# Altium schematic symbol library Fuse_Clip.SchLib: 23 symbols
Pins are listed as number, name and electrical type; pins without a type are passive.

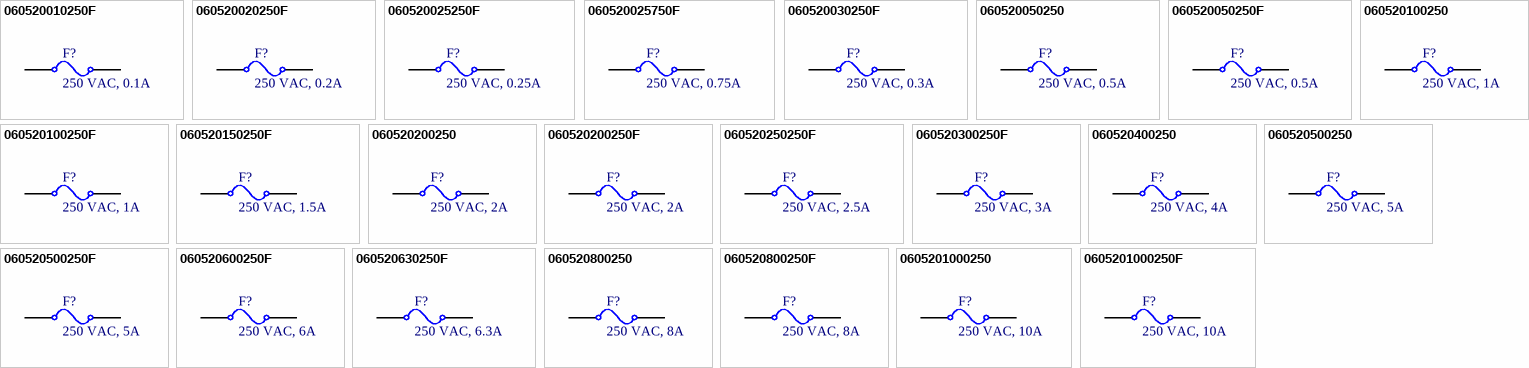
[diagram p0: symbols 060520010250F to 0605201000250F]

## 060520010250F
designator F?, comment 250 VAC, 0.1A
Glass Fuse, Size 0520, 250 VAC, 0.1A, F; Manufacturer: Bel Fuse; Threshold Voltage: 250VAC; Threshold Current: 35A ( 250VAC); Supply 1 Name: Mouser; Supply 1 SN: 530-5ST100-R; Supply 2 Name: Digikey; Supply 2 SN: 507-1238-ND; Supply 3 Name: Thegioiic; Hold Current: 0.1A; Size: 0520; Mounting Technology: Holder / Clip; Fuse speed: F; ComponentLink1Description: Datasheet link; ComponentLink1URL: https://www.belfuse.com/resources/datasheets/circuitprotection/ds-cp-5st-5stp-series.pdf; ComponentLink2Description: Supply 1 URL; ComponentLink2URL: https://www.mouser.vn/ProductDetail/Bel-Fuse/5ST-100-R?qs=MvPYbBWWJysvyCTUIgtvFw%3D%3D; ComponentLink3Description: Supply 2 URL; ComponentLink3URL: https://www.digikey.com/en/products/detail/bel-fuse-inc/5ST-100-R/1009010; ComponentLink4Description: Supply 3 URL; ComponentLink4URL: https://www.thegioiic.com/cau-chi-ong-thuy-tinh-0-1a-5x20mm-toc-do-f; Supply 3 SN: N/A
pins: 0, 1

## 060520020250F
designator F?, comment 250 VAC, 0.2A
Glass Fuse, Size 0520, 250 VAC, 0.2A, F; Manufacturer: Littelfuse; Threshold Voltage: 250VAC; Threshold Current: 35A ( 250VAC); Supply 1 Name: Mouser; Supply 1 SN: 576-0217.200MXP; Supply 2 Name: Digikey; Supply 2 SN: 507-1263-ND; Supply 3 Name: Thegioiic; Hold Current: 0.2A; Size: 0520; Mounting Technology: Holder / Clip; Fuse speed: F; ComponentLink1Description: Datasheet link; ComponentLink1URL: https://www.littelfuse.com/~/media/electronics/datasheets/fuses/littelfuse_fuse_217_datasheet.pdf.pdf; ComponentLink2Description: Supply 1 URL; ComponentLink2URL: https://www.mouser.vn/ProductDetail/Littelfuse/0217.200MXP?qs=LpXnx4WbYtByvcMiHPFRdQ%3D%3D; ComponentLink3Description: Supply 2 URL; ComponentLink3URL: https://www.digikey.com/en/products/detail/bel-fuse-inc/5MF-1-5-R/1009035; ComponentLink4Description: Supply 3 URL; ComponentLink4URL: https://www.thegioiic.com/cau-chi-ong-thuy-tinh-0-2a-5x20mm-toc-do-f; Supply 3 SN: N/A
pins: 0, 1

## 060520025250F
designator F?, comment 250 VAC, 0.25A
Glass Fuse, Size 0520, 250 VAC, 0.25A, F; Manufacturer: Littelfuse; Threshold Voltage: 250VAC; Threshold Current: 35A ( 250VAC); Supply 1 Name: Mouser; Supply 1 SN: 576-0217.250MXP; Supply 2 Name: Digikey; Supply 2 SN: F1718-ND; Supply 3 Name: Thegioiic; Hold Current: 0.25A; Size: 0520; Mounting Technology: Holder / Clip; Fuse speed: F; ComponentLink1Description: Datasheet link; ComponentLink1URL: https://www.littelfuse.com/~/media/electronics/datasheets/fuses/littelfuse_fuse_217_datasheet.pdf.pdf; ComponentLink2Description: Supply 1 URL; ComponentLink2URL: https://www.mouser.vn/ProductDetail/Littelfuse/0217.250MXP?qs=KOeOmFnJLTo%252BGMWHwtjXYA%3D%3D; ComponentLink3Description: Supply 2 URL; ComponentLink3URL: https://www.digikey.com/en/products/detail/littelfuse-inc/0217-250MXP/777531?s=N4IgTCBcDaIAxgIwHYB0YCscCyANACiALoC%2BQA; ComponentLink4Description: Supply 3 URL; ComponentLink4URL: https://www.thegioiic.com/cau-chi-ong-thuy-tinh-0-25a-5x20mm-toc-do-f; Supply 3 SN: N/A
pins: 0, 1

## 060520025750F
designator F?, comment 250 VAC, 0.75A
Glass Fuse, Size 0520, 250 VAC, 0.75A, F; Manufacturer: Bussmann / Eaton; Threshold Voltage: 250VAC; Threshold Current: 35A; Supply 1 Name: Mouser; Supply 1 SN: 504-BK/GMA-750-R; Supply 2 Name: Digikey; Supply 2 SN: 283-2869-ND; Supply 3 Name: Thegioiic; Hold Current: 0.75A; Size: 0520; Mounting Technology: Holder / Clip; Fuse speed: F; ComponentLink1Description: Datasheet link; ComponentLink1URL: https://www.eaton.com/content/dam/eaton/products/electronic-components/resources/data-sheet/eaton-gma-time-delay-glass-tube-fuses-data-sheet.pdf; ComponentLink2Description: Supply 1 URL; ComponentLink2URL: https://www.mouser.vn/ProductDetail/Bussmann-Eaton/BK-GMA-750-R?qs=St27ATL478tI49%252BCTEEZkw%3D%3D; ComponentLink3Description: Supply 2 URL; ComponentLink3URL: https://www.digikey.com/en/products/detail/eaton-electronics-division/BK-GMA-750-R/1023987?s=N4IgTCBcDaIAQCEDSB6A4gWQIIFoDsArAAw4BKIAugL5A; ComponentLink4Description: Supply 3 URL; ComponentLink4URL: https://www.thegioiic.com/cau-chi-ong-thuy-tinh-0-75a-5x20mm-toc-do-f; Supply 3 SN: N/A
pins: 0, 1

## 060520030250F
designator F?, comment 250 VAC, 0.3A
Glass Fuse, Size 0520, 250 VAC, 0.3A, F; Manufacturer: Littelfuse; Threshold Voltage: 250VAC; Threshold Current: 10kA ( 125VAC); Supply 1 Name: Mouser; Supply 1 SN: 576-0235.300MXP; Supply 2 Name: Digikey; Supply 2 SN: F4717-ND; Supply 3 Name: Thegioiic; Hold Current: 0.3A; Size: 0520; Mounting Technology: Holder / Clip; Fuse speed: F; ComponentLink1Description: Datasheet link; ComponentLink1URL: https://www.littelfuse.com/~/media/electronics/datasheets/fuses/littelfuse_fuse_217_datasheet.pdf.pdf; ComponentLink2Description: Supply 1 URL; ComponentLink2URL: https://www.mouser.vn/ProductDetail/Littelfuse/0235.300MXP?qs=qI%252BDxnNls1%2FlgYUhjxKUBg%3D%3D; ComponentLink3Description: Supply 2 URL; ComponentLink3URL: https://www.digikey.com/en/products/detail/littelfuse-inc/0235-300MXP/778120?s=N4IgTCBcDaIAxgMwFYB0i5wLIA0AKIAugL5A; ComponentLink4Description: Supply 3 URL; ComponentLink4URL: https://www.thegioiic.com/cau-chi-ong-thuy-tinh-0-3a-5x20mm-toc-do-f; Supply 3 SN: N/A
pins: 0, 1

## 060520050250
designator F?, comment 250 VAC, 0.5A
Ceramic Fuse, Size 0520, 250 VAC, 0.5A; Manufacturer: Littelfuse; Threshold Voltage: 250VAC; Threshold Current: 1,5kA (250VAC); Supply 1 Name: Mouser; Supply 1 SN: 576-0215.500MXP; Supply 2 Name: Digikey; Supply 2 SN: F3597-ND; Supply 3 Name: Thegioiic; Hold Current: 0.5A; Size: 0520; Mounting Technology: Holder / Clip; ComponentLink1Description: Datasheet link; ComponentLink1URL: https://www.littelfuse.com/~/media/electronics/datasheets/fuses/littelfuse_fuse_217_datasheet.pdf.pdf; ComponentLink2Description: Supply 1 URL; ComponentLink2URL: https://www.mouser.vn/ProductDetail/Littelfuse/0215.500MXP?qs=qI%252BDxnNls1%2Fdlp%2FQaMILDA%3D%3D; ComponentLink3Description: Supply 2 URL; ComponentLink3URL: https://www.digikey.com/en/products/detail/littelfuse-inc/0215-500MXP/777422?s=N4IgTCBcDaIAxgIwFYB0y5wLIA0AKIAugL5A; ComponentLink4Description: Supply 3 URL; ComponentLink4URL: https://www.thegioiic.com/cau-chi-su-0-5a-5x20mm; Supply 3 SN: N/A
pins: 0, 1

## 060520050250F
designator F?, comment 250 VAC, 0.5A
Glass Fuse, Size 0520, 250 VAC, 0.5A, F; Manufacturer: Littelfuse; Threshold Voltage: 250VAC; Threshold Current: 35A (250VAC); Supply 1 Name: Mouser; Supply 1 SN: 576-0217.500HXP; Supply 2 Name: Digikey; Supply 2 SN: F2389-ND; Supply 3 Name: Thegioiic; Hold Current: 0.5A; Size: 0520; Mounting Technology: Holder / Clip; Fuse speed: F; ComponentLink1Description: Datasheet link; ComponentLink1URL: https://www.littelfuse.com/~/media/electronics/datasheets/fuses/littelfuse_fuse_217_datasheet.pdf.pdf; ComponentLink2Description: Supply 1 URL; ComponentLink2URL: https://www.mouser.vn/ProductDetail/Littelfuse/0217.500HXP?qs=LpXnx4WbYtBiNp2qBalYRA%3D%3D; ComponentLink3Description: Supply 2 URL; ComponentLink3URL: https://www.digikey.com/en/products/detail/littelfuse-inc/0217-500HXP/777105?s=N4IgTCBcDaIAxgIwHYB0BWOcASANACiALoC%2BQA; ComponentLink4Description: Supply 3 URL; ComponentLink4URL: https://www.thegioiic.com/cau-chi-ong-thuy-tinh-0-5a-5x20mm-toc-do-f; Supply 3 SN: N/A
pins: 0, 1

## 060520100250
designator F?, comment 250 VAC, 1A
Ceramic Fuse, Size 0520, 250 VAC, 1A; Manufacturer: Littelfuse; Threshold Voltage: 250VAC; Threshold Current: 1.5kA (250VAC); Supply 1 Name: Mouser; Supply 1 SN: 576-0215001.MXP; Supply 2 Name: Digikey; Supply 2 SN: F1696-ND; Supply 3 Name: Thegioiic; Hold Current: 1A; Size: 0520; Mounting Technology: Holder / Clip; ComponentLink1Description: Datasheet link; ComponentLink1URL: https://www.littelfuse.com/~/media/electronics/datasheets/fuses/littelfuse_fuse_234_datasheet.pdf.pdf; ComponentLink2Description: Supply 1 URL; ComponentLink2URL: https://www.mouser.vn/ProductDetail/Littelfuse/0215001.MXP?qs=ar9f0rk5DXA%2FCWd1HPfSGA%3D%3D; ComponentLink3Description: Supply 2 URL; ComponentLink3URL: https://www.digikey.com/en/products/detail/littelfuse-inc/0215001-MXP/777431?s=N4IgTCBcDaIAxgIwFY50QOgLIA0AKIAugL5A; ComponentLink4Description: Supply 3 URL; ComponentLink4URL: https://www.thegioiic.com/cau-chi-su-1a-5x20mm; Supply 3 SN: N/A
pins: 0, 1

## 060520100250F
designator F?, comment 250 VAC, 1A
Glass Fuse, Size 0520, 250 VAC, 1A, F; Manufacturer: Littelfuse; Threshold Voltage: 250VAC; Threshold Current: 35A (250VAC); Supply 1 Name: Mouser; Supply 1 SN: 576-0217001.MXP; Supply 2 Name: Digikey; Supply 2 SN: F5929-ND; Supply 3 Name: Thegioiic; Hold Current: 1A; Size: 0520; Mounting Technology: Holder / Clip; Fuse speed: F; ComponentLink1Description: Datasheet link; ComponentLink1URL: https://www.littelfuse.com/~/media/electronics/datasheets/fuses/littelfuse_fuse_234_datasheet.pdf.pdf; ComponentLink2Description: Supply 1 URL; ComponentLink2URL: https://www.mouser.vn/ProductDetail/Littelfuse/0217001.MXP?qs=8QfiMw8FY5O6uJ5P97zz7g%3D%3D; ComponentLink3Description: Supply 2 URL; ComponentLink3URL: https://www.digikey.com/en/products/detail/littelfuse-inc/0217001-MXP/777543?s=N4IgTCBcDaIAQAYwEYDsCHIHQFkAaACiALoC%2BQA; ComponentLink4Description: Supply 3 URL; ComponentLink4URL: https://www.thegioiic.com/cau-chi-ong-thuy-tinh-1a-5x20mm-toc-do-f; Supply 3 SN: N/A
pins: 0, 1

## 060520150250F
designator F?, comment 250 VAC, 1.5A
Glass Fuse, Size 0520, 250 VAC, 1.5A, F; Manufacturer: Bel Fuse; Threshold Voltage: 250VAC; Threshold Current: 10kA ( 125VAC); Supply 1 Name: Mouser; Supply 1 SN: 576-0235.300MXP; Supply 2 Name: Digikey; Supply 2 SN: F4717-ND; Supply 3 Name: Thegioiic; Hold Current: 1.5A; Size: 0520; Mounting Technology: Holder / Clip; Fuse speed: F; ComponentLink1Description: Datasheet link; ComponentLink1URL: https://www.belfuse.com/resources/datasheets/circuitprotection/ds-cp-5mf-5mfp-series.pdf; ComponentLink2Description: Supply 1 URL; ComponentLink2URL: https://www.mouser.vn/ProductDetail/Bel-Fuse/5MF-1.5-R?qs=MvPYbBWWJytyVTk9PnzKGA%3D%3D; ComponentLink3Description: Supply 2 URL; ComponentLink3URL: https://www.digikey.com/en/products/detail/bel-fuse-inc/5MF-1-5-R/1009035; ComponentLink4Description: Supply 3 URL; ComponentLink4URL: https://www.thegioiic.com/cau-chi-ong-thuy-tinh-1-5a-5x20mm-toc-do-f; Supply 3 SN: N/A
pins: 0, 1

## 060520200250
designator F?, comment 250 VAC, 2A
Ceramic Fuse, Size 0520, 250 VAC, 2A; Manufacturer: Littelfuse; Threshold Voltage: 250VAC; Threshold Current: 1.5kA (250VAC); Supply 1 Name: Mouser; Supply 1 SN: 576-0215002.HXP; Supply 2 Name: Digikey; Supply 2 SN: F2662-ND; Supply 3 Name: Thegioiic; Hold Current: 2A; Size: 0520; Mounting Technology: Holder / Clip; ComponentLink1Description: Datasheet link; ComponentLink1URL: https://www.littelfuse.com/~/media/electronics/datasheets/fuses/littelfuse_fuse_234_datasheet.pdf.pdf; ComponentLink2Description: Supply 1 URL; ComponentLink2URL: https://www.mouser.vn/ProductDetail/Littelfuse/0215002.HXP?qs=KOeOmFnJLTqrn80%2F88U61A%3D%3D; ComponentLink3Description: Supply 2 URL; ComponentLink3URL: https://www.digikey.com/en/products/detail/littelfuse-inc/0215002-HXP/777432?s=N4IgTCBcDaIAxgIwFY4IHQAkAaAFEAugL5A; ComponentLink4Description: Supply 3 URL; ComponentLink4URL: https://www.thegioiic.com/cau-chi-su-2a-5x20mm; Supply 3 SN: N/A
pins: 0, 1

## 060520200250F
designator F?, comment 250 VAC, 2A
Glass Fuse, Size 0520, 250 VAC, 2A, F; Manufacturer: Littelfuse; Threshold Voltage: 250VAC; Threshold Current: 35A (250VAC); Supply 1 Name: Mouser; Supply 1 SN: 576-0217002.MXP; Supply 2 Name: Digikey; Supply 2 SN: F1723-ND; Supply 3 Name: Thegioiic; Hold Current: 2A; Size: 0520; Mounting Technology: Holder / Clip; Fuse speed: F; ComponentLink1Description: Datasheet link; ComponentLink1URL: https://www.littelfuse.com/~/media/electronics/datasheets/fuses/littelfuse_fuse_234_datasheet.pdf.pdf; ComponentLink2Description: Supply 1 URL; ComponentLink2URL: https://www.mouser.vn/ProductDetail/Littelfuse/0217002.MXP?qs=YKoktUZms5IWTPy42qy8YA%3D%3D; ComponentLink3Description: Supply 2 URL; ComponentLink3URL: https://www.digikey.com/en/products/detail/littelfuse-inc/0217002-MXP/777545?s=N4IgTCBcDaIAQAYwEYDsCkDoCyANACiALoC%2BQA; ComponentLink4Description: Supply 3 URL; ComponentLink4URL: https://www.thegioiic.com/cau-chi-ong-thuy-tinh-2a-5x20mm-toc-do-f; Supply 3 SN: N/A
pins: 0, 1

## 060520250250F
designator F?, comment 250 VAC, 2.5A
Glass Fuse, Size 0520, 250 VAC, 2.5A, F; Manufacturer: Littelfuse; Threshold Voltage: 250VAC; Threshold Current: 35A (250VAC); Supply 1 Name: Mouser; Supply 1 SN: 576-021702.5TXP; Supply 2 Name: Digikey; Supply 2 SN: F4260-ND; Supply 3 Name: Thegioiic; Hold Current: 2.5A; Size: 0520; Mounting Technology: Holder / Clip; Fuse speed: F; ComponentLink1Description: Datasheet link; ComponentLink1URL: https://www.littelfuse.com/~/media/electronics/datasheets/fuses/littelfuse_fuse_234_datasheet.pdf.pdf; ComponentLink2Description: Supply 1 URL; ComponentLink2URL: https://www.mouser.vn/ProductDetail/Littelfuse/021702.5TXP?qs=Co4VkB5J4%2FtlATVasM8PdQ%3D%3D; ComponentLink3Description: Supply 2 URL; ComponentLink3URL: https://www.digikey.com/en/products/detail/littelfuse-inc/021702-5TXP/3305622?s=N4IgTCBcDaIAxgIwHYEDoCsAVAGgBRAF0BfIA; ComponentLink4Description: Supply 3 URL; ComponentLink4URL: https://www.thegioiic.com/cau-chi-ong-thuy-tinh-2-5a-5x20mm-toc-do-f; Supply 3 SN: N/A
pins: 0, 1

## 060520300250F
designator F?, comment 250 VAC, 3A
Glass Fuse, Size 0520, 250 VAC, 3A, F; Manufacturer: Littelfuse; Threshold Voltage: 250VAC; Threshold Current: 10kA (125VAC); Supply 1 Name: Mouser; Supply 1 SN: 576-0235003.HXP; Supply 2 Name: Digikey; Supply 2 SN: F2682-ND; Supply 3 Name: Thegioiic; Hold Current: 3A; Size: 0520; Mounting Technology: Holder / Clip; Fuse speed: F; ComponentLink1Description: Datasheet link; ComponentLink1URL: https://www.littelfuse.com/~/media/electronics/datasheets/fuses/littelfuse_fuse_234_datasheet.pdf.pdf; ComponentLink2Description: Supply 1 URL; ComponentLink2URL: https://www.mouser.vn/ProductDetail/Littelfuse/0235003.HXP?qs=WtG364jHAdx3buZ4LbEsmg%3D%3D; ComponentLink3Description: Supply 2 URL; ComponentLink3URL: https://www.digikey.com/en/products/detail/littelfuse-inc/0235003-HXP/778150?s=N4IgTCBcDaIAxgMwFY50QOgBIA0AKIAugL5A; ComponentLink4Description: Supply 3 URL; ComponentLink4URL: https://www.thegioiic.com/cau-chi-ong-thuy-tinh-3a-5x20mm-toc-do-f; Supply 3 SN: N/A
pins: 0, 1

## 060520400250
designator F?, comment 250 VAC, 4A
Ceramic Fuse, Size 0520, 250 VAC, 4A; Manufacturer: Littelfuse; Threshold Voltage: 250VAC; Threshold Current: 1.5 kA (250VAC); Supply 1 Name: Mouser; Supply 1 SN: 576-0215004.MXP; Supply 2 Name: Digikey; Supply 2 SN: F1697-ND; Supply 3 Name: Thegioiic; Hold Current: 4A; Size: 0520; Mounting Technology: Holder / Clip; ComponentLink1Description: Datasheet link; ComponentLink1URL: https://www.littelfuse.com/media?resourcetype=datasheets&itemid=a0d11841-302e-49a3-9086-a6d43e30edf0&filename=littelfuse-fuse-215-datasheet; ComponentLink2Description: Supply 1 URL; ComponentLink2URL: https://www.mouser.vn/ProductDetail/Littelfuse/0215004.MXP?qs=bpnLQM2ZShyhLPqerLPL3g%3D%3D; ComponentLink3Description: Supply 2 URL; ComponentLink3URL: https://www.digikey.com/en/products/detail/littelfuse-inc/0215004-MXP/777437?s=N4IgTCBcDaIAxgIwFY5wCwDoCyANACiALoC%2BQA; ComponentLink4Description: Supply 3 URL; ComponentLink4URL: https://www.thegioiic.com/cau-chi-su-4a-5x20mm; Supply 3 SN: N/A
pins: 0, 1

## 060520500250
designator F?, comment 250 VAC, 5A
Ceramic Fuse, Size 0520, 250 VAC, 5A; Manufacturer: Littelfuse; Threshold Voltage: 250VAC; Threshold Current: 1.5kA (250VAC); Supply 1 Name: Mouser; Supply 1 SN: 576-0215005.HXP; Supply 2 Name: Digikey; Supply 2 SN: F2666-ND; Supply 3 Name: Thegioiic; Hold Current: 5A; Size: 0520; Mounting Technology: Holder / Clip; ComponentLink1Description: Datasheet link; ComponentLink1URL: https://www.littelfuse.com/~/media/electronics/datasheets/fuses/littelfuse_fuse_234_datasheet.pdf.pdf; ComponentLink2Description: Supply 1 URL; ComponentLink2URL: https://www.mouser.vn/ProductDetail/Littelfuse/0215005.HXP?qs=rkYlxpo0zrFldKFCO%252BlKVQ%3D%3D; ComponentLink3Description: Supply 2 URL; ComponentLink3URL: https://www.digikey.com/en/products/detail/littelfuse-inc/0215005-HXP/777438?s=N4IgTCBcDaIAxgIwFY52QOgBIA0AKIAugL5A; ComponentLink4Description: Supply 3 URL; ComponentLink4URL: https://www.thegioiic.com/cau-chi-su-5a-5x20mm; Supply 3 SN: N/A
pins: 0, 1

## 060520500250F
designator F?, comment 250 VAC, 5A
Glass Fuse, Size 0520, 250 VAC, 5A, F; Manufacturer: Littelfuse; Threshold Voltage: 250VAC; Threshold Current: 50A (125VAC); Supply 1 Name: Mouser; Supply 1 SN: 576-0217005.MXP; Supply 2 Name: Digikey; Supply 2 SN: F1725-ND; Supply 3 Name: Thegioiic; Hold Current: 5A; Size: 0520; Mounting Technology: Holder / Clip; Fuse speed: F; ComponentLink1Description: Datasheet link; ComponentLink1URL: https://www.littelfuse.com/~/media/electronics/datasheets/fuses/littelfuse_fuse_234_datasheet.pdf.pdf; ComponentLink2Description: Supply 1 URL; ComponentLink2URL: https://www.mouser.vn/ProductDetail/Littelfuse/0217005.MXP?qs=8QfiMw8FY5N%2FZH431hpxSA%3D%3D; ComponentLink3Description: Supply 2 URL; ComponentLink3URL: https://www.digikey.com/en/products/detail/littelfuse-inc/0217005-MXP/777549?s=N4IgTCBcDaIAQAYwEYDsCEFYB0BZAGgAogC6AvkA; ComponentLink4Description: Supply 3 URL; ComponentLink4URL: https://www.thegioiic.com/cau-chi-ong-thuy-tinh-5a-5x20mm-toc-do-f; Supply 3 SN: N/A
pins: 0, 1

## 060520600250F
designator F?, comment 250 VAC, 6A
Glass Fuse, Size 0520, 250 VAC, 6A, F; Manufacturer: Littelfuse; Threshold Voltage: 250VAC; Threshold Current: 10kA (125VAC); Supply 1 Name: Mouser; Supply 1 SN: 576-0234006.MXP; Supply 2 Name: Digikey; Supply 2 SN: F2694-ND; Supply 3 Name: Thegioiic; Hold Current: 6A; Size: 0520; Mounting Technology: Holder / Clip; Fuse speed: F; ComponentLink1Description: Datasheet link; ComponentLink1URL: https://www.littelfuse.com/~/media/electronics/datasheets/fuses/littelfuse_fuse_234_datasheet.pdf.pdf; ComponentLink2Description: Supply 1 URL; ComponentLink2URL: https://www.mouser.vn/ProductDetail/Littelfuse/0234006.MXP?qs=YKoktUZms5InNPE1Qna0Cg%3D%3D; ComponentLink3Description: Supply 2 URL; ComponentLink3URL: https://www.digikey.com/en/products/detail/littelfuse-inc/0234006-MXP/778084; ComponentLink4Description: Supply 3 URL; ComponentLink4URL: https://www.thegioiic.com/cau-chi-ong-thuy-tinh-6a-5x20mm-toc-do-f; Supply 3 SN: N/A
pins: 0, 1

## 060520630250F
designator F?, comment 250 VAC, 6.3A
Glass Fuse, Size 0520, 250 VAC, 6.3A, F; Manufacturer: Littelfuse; Threshold Voltage: 250VAC; Threshold Current: 63A (250VAC); Supply 1 Name: Mouser; Supply 1 SN: 576-021706.3VXP; Supply 2 Name: Digikey; Supply 2 SN: F11027-ND; Supply 3 Name: Thegioiic; Hold Current: 6.3A; Size: 0520; Mounting Technology: Holder / Clip; Fuse speed: F; ComponentLink1Description: Datasheet link; ComponentLink1URL: https://www.littelfuse.com/~/media/electronics/datasheets/fuses/littelfuse_fuse_234_datasheet.pdf.pdf; ComponentLink2Description: Supply 1 URL; ComponentLink2URL: https://www.mouser.vn/ProductDetail/Littelfuse/021706.3VXP?qs=Vv6sT79n3zQZ1wGK5TThFg%3D%3D; ComponentLink3Description: Supply 2 URL; ComponentLink3URL: https://www.digikey.com/en/products/detail/littelfuse-inc/021706-3VXP/3424969?s=N4IgTCBcDaIAxgIwHY4DYB0BmAagDQAUQBdAXyA; ComponentLink4Description: Supply 3 URL; ComponentLink4URL: https://www.thegioiic.com/cau-chi-ong-thuy-tinh-6-3a-5x20mm-toc-do-f; Supply 3 SN: N/A
pins: 0, 1

## 060520800250
designator F?, comment 250 VAC, 8A
Ceramic Fuse, Size 0520, 250 VAC, 8A; Manufacturer: Littelfuse; Threshold Voltage: 250VAC; Threshold Current: 1.5kA (250VAC); Supply 1 Name: Mouser; Supply 1 SN: 576-0215008.MXP; Supply 2 Name: Digikey; Supply 2 SN: F4613-ND; Supply 3 Name: Thegioiic; Hold Current: 8A; Size: 0520; Mounting Technology: Holder / Clip; ComponentLink1Description: Datasheet link; ComponentLink1URL: https://www.littelfuse.com/~/media/electronics/datasheets/fuses/littelfuse_fuse_234_datasheet.pdf.pdf; ComponentLink2Description: Supply 1 URL; ComponentLink2URL: https://www.mouser.vn/ProductDetail/Littelfuse/0215008.MXP?qs=qI%252BDxnNls18xZY24y8bA3A%3D%3D; ComponentLink3Description: Supply 2 URL; ComponentLink3URL: https://www.digikey.com/en/products/detail/littelfuse-inc/0215008-MXP/777443?s=N4IgTCBcDaIAQAYwEYCsCEA4B0BZAGgAogC6AvkA; ComponentLink4Description: Supply 3 URL; ComponentLink4URL: https://www.thegioiic.com/cau-chi-su-8a-5x20mm; Supply 3 SN: N/A
pins: 0, 1

## 060520800250F
designator F?, comment 250 VAC, 8A
Glass Fuse, Size 0520, 250 VAC, 8A, F; Manufacturer: Littelfuse; Threshold Voltage: 250VAC; Threshold Current: 80A (125VAC); Supply 1 Name: Mouser; Supply 1 SN: 576-0217008.MXP; Supply 2 Name: Digikey; Supply 2 SN: F4635-ND; Supply 3 Name: Thegioiic; Hold Current: 8A; Size: 0520; Mounting Technology: Holder / Clip; Fuse speed: F; ComponentLink1Description: Datasheet link; ComponentLink1URL: https://www.littelfuse.com/~/media/electronics/datasheets/fuses/littelfuse_fuse_234_datasheet.pdf.pdf; ComponentLink2Description: Supply 1 URL; ComponentLink2URL: https://www.mouser.vn/ProductDetail/Littelfuse/0217008.MXP?qs=8QfiMw8FY5N6Hjj4UqrSQw%3D%3D; ComponentLink3Description: Supply 2 URL; ComponentLink3URL: https://www.digikey.com/en/products/detail/littelfuse-inc/0217008-MXP/777551?s=N4IgTCBcDaIAxgIwHY5wBwDoCyANACiALoC%2BQA; ComponentLink4Description: Supply 3 URL; ComponentLink4URL: https://www.thegioiic.com/cau-chi-ong-thuy-tinh-8a-5x20mm-toc-do-f; Supply 3 SN: N/A
pins: 0, 1

## 0605201000250
designator F?, comment 250 VAC, 10A
Ceramic Fuse, Size 0520, 250 VAC, 10A; Manufacturer: Littelfuse; Threshold Voltage: 250VAC; Threshold Current: 1.5kA (250VAC); Supply 1 Name: Mouser; Supply 1 SN: 576-0215010.MXP; Supply 2 Name: Digikey; Supply 2 SN: F1699-ND; Supply 3 Name: Thegioiic; Hold Current: 10A; Size: 0520; Mounting Technology: Holder / Clip; ComponentLink1Description: Datasheet link; ComponentLink1URL: https://www.littelfuse.com/~/media/electronics/datasheets/fuses/littelfuse_fuse_234_datasheet.pdf.pdf; ComponentLink2Description: Supply 1 URL; ComponentLink2URL: https://www.mouser.vn/ProductDetail/Littelfuse/0215010.MXP?qs=qI%252BDxnNls1%252BmXG81o%252BQ0mA%3D%3D; ComponentLink3Description: Supply 2 URL; ComponentLink3URL: https://www.digikey.com/en/products/detail/littelfuse-inc/0215010-MXP/777449; ComponentLink4Description: Supply 3 URL; ComponentLink4URL: https://www.thegioiic.com/cau-chi-su-10a-5x20mm; Supply 3 SN: N/A
pins: 0, 1

## 0605201000250F
designator F?, comment 250 VAC, 10A
Glass Fuse, Size 0520, 250 VAC, 10A, F; Manufacturer: Littelfuse; Threshold Voltage: 250VAC; Threshold Current: 100A (125VAC); Supply 1 Name: Mouser; Supply 1 SN: 576-0218010.HXP; Supply 2 Name: Digikey; Supply 2 SN: F2425-ND; Supply 3 Name: Thegioiic; Hold Current: 10A; Size: 0520; Mounting Technology: Holder / Clip; Fuse speed: F; ComponentLink1Description: Datasheet link; ComponentLink1URL: https://www.littelfuse.com/~/media/electronics/datasheets/fuses/littelfuse_fuse_234_datasheet.pdf.pdf; ComponentLink2Description: Supply 1 URL; ComponentLink2URL: https://www.mouser.vn/ProductDetail/Littelfuse/0218010.HXP?qs=YKoktUZms5K5aEWQkceb8A%3D%3D; ComponentLink3Description: Supply 2 URL; ComponentLink3URL: https://www.digikey.com/en/products/detail/littelfuse-inc/0218010-HXP/777141?s=N4IgTCBcDaIAxgIwA46LgOgBIA0AKIAugL5A; ComponentLink4Description: Supply 3 URL; ComponentLink4URL: https://www.thegioiic.com/cau-chi-ong-thuy-tinh-10a-5x20mm-toc-do-f; Supply 3 SN: N/A
pins: 0, 1